# Altium schematic symbol library LP38798.SchLib: 1 symbol
Pins are listed as number, name and electrical type; pins without a type are passive.

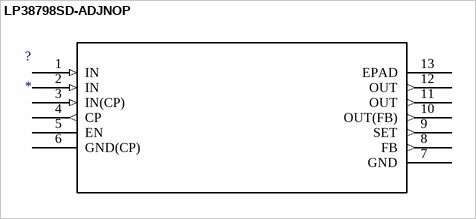
[diagram p0: symbol LP38798SD-ADJNOP]

## LP38798SD-ADJNOP
designator ?
Imported; Manufacturer_Part_Number: lp38798sd-adj/nopb; Vendor: TEXAS INSTRUMENTS; C: Copyright (C) 2015 Accelerated Designs. All rights reserved; Copyright: Copyright (C) 2015 Accelerated Designs. All rights reserved; RefDes: RefDes; Type: DEV; Value: Value
footprint DNT12
pins: 1 IN (in), 2 IN (in), 3 IN(CP) (in), 4 CP (out), 5 EN, 6 GND(CP) (power), 7 GND (power), 8 FB (out), 9 SET (out), 10 OUT(FB) (out), 11 OUT (out), 12 OUT (out), 13 EPAD